# Altium footprint library 零散封装库.PcbLib: 11 footprints
Each footprint in its own frame and in the unit in brackets; x right, y up, seen from the top. Pads: shape width x height; smd on the part's side, far side on the other; paste and mask are expansions set on the pad; w line width, h text height; cw(c..) or ccw(c..) is an arc to the next point about the centre after c.
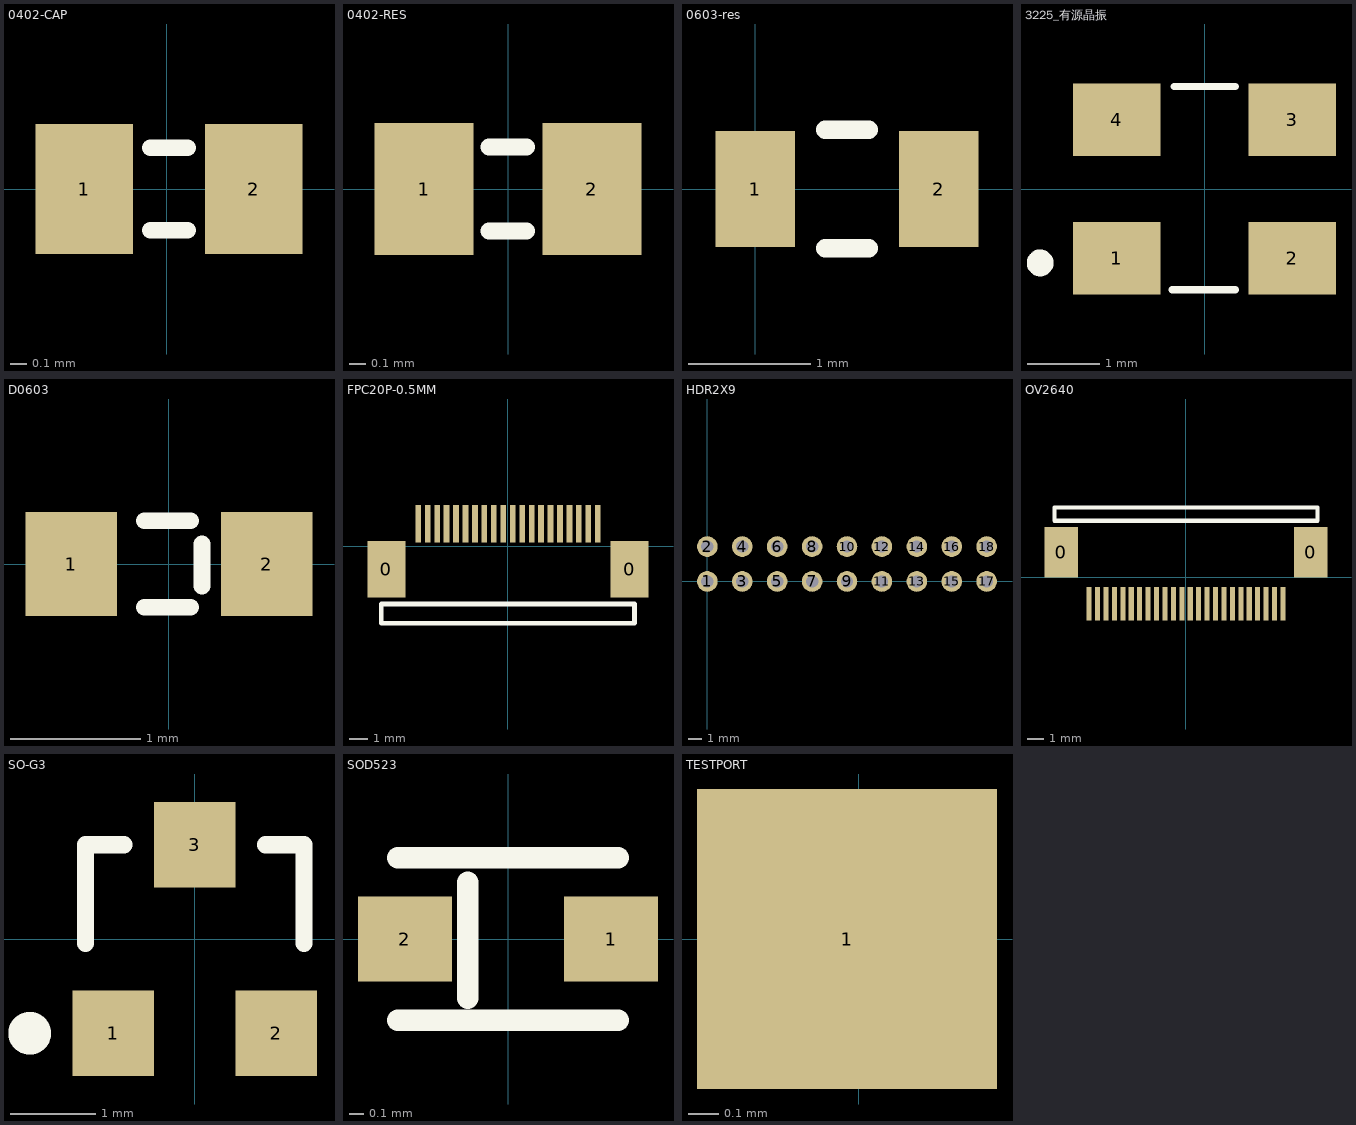
[diagram p0: the footprints below, top view; thin cyan lines are the x and y axes]

## 0402-CAP [mm] "Chip Capacitor, 2-Leads, Body 1.00x0.50mm, IPC Medium Density"
height 0.5
pads (2):
  rect 0.6x0.8 smd: 1(-0.508,0) 2(0.533,0)
Top Overlay:
  lines w0.102: -0.102,-0.254 0.127,-0.254 ; -0.102,0.254 0.127,0.254
3D body "CAPCP1005X05N.step": height 0.5, standoff 0, extent -0.525,-0.275 0.525,0.275

## 0402-RES [mm] "Chip Resistor, 2-Leads, Body 1.00x0.50mm, IPC Medium Density"
height 0.5
pads (2):
  rect 0.6x0.8 smd: 1(-0.508,0) 2(0.508,0)
Top Overlay:
  lines w0.102: -0.117,-0.254 0.112,-0.254 ; -0.117,0.254 0.112,0.254
3D body "RESC1005X05N.step": height 0.5, standoff 0, extent -0.527,-0.275 0.523,0.275

## 0603-res [mm]
height 0.35
pads (2):
  rect 0.65x0.95 smd: 1(0,0) 2(1.5,0)
Top Overlay:
  lines w0.152: 0.572,-0.483 0.928,-0.483 ; 0.572,0.483 0.928,0.483
3D body "0603-res.step": height 0.35, standoff 0, extent -0.125,-0.475 1.625,0.475

## 3225_有源晶振 [mm]
height 0.7
pads (4):
  rect 1.2x1 smd: 1(-1.206,-0.953) 2(1.206,-0.953) 3(1.206,0.953) 4(-1.206,0.953)
Top Overlay:
  circle w0.254: c-2.261,-1.016 r0.057
  lines w0.102: -0.445,-1.384 0.419,-1.384 ; -0.415,1.41 0.419,1.41
3D body "CRYTAL-SMD-SX3225.STEP": height 0.81, standoff 0, extent -1.613,-1.232 1.587,1.268

## D0603 [mm]
pads (2):
  rect 0.7x0.8 smd: 1(-0.75,0) 2(0.75,0)
Top Overlay:
  lines w0.127: -0.19,-0.333 0.165,-0.333 ; -0.19,0.333 0.165,0.333 ; 0.253,-0.17 0.253,0.154
3D body "LED-0603.STEP": height 0.52, standoff -0.03, extent -0.851,-0.387 0.8,0.413

## FPC20P-0.5MM [mm]
height 0.7
pads (22):
  rect 2x3 smd: 0(-6.436,-1.202) 0(6.436,-1.202)
  rect 0.3x2 smd: 1(4.75,1.202) 2(4.25,1.202) 3(3.75,1.202) 4(3.25,1.202) 5(2.75,1.202) 6(2.25,1.202) 7(1.75,1.202) 8(1.25,1.202) 9(0.75,1.202) 10(0.25,1.202) 11(-0.25,1.202) 12(-0.75,1.202) 13(-1.25,1.202) 14(-1.75,1.202) 15(-2.25,1.202) 16(-2.75,1.202) 17(-3.25,1.202) 18(-3.75,1.202) 19(-4.25,1.202) 20(-4.75,1.202)
Top Overlay:
  lines w0.254: -6.701,-4.065 -6.701,-3.049 6.699,-3.049 6.699,-4.065 -6.701,-4.065

## HDR2X9 [mm] "Connector; Header; 9x2 Position"
height 0.7
pads (18):
  round 1.5 hole 0.9: 1(0,0) 2(0,2.54) 3(2.54,0) 4(2.54,2.54) 5(5.08,0) 6(5.08,2.54) 7(7.62,0) 8(7.62,2.54) 9(10.16,0) 10(10.16,2.54) 11(12.7,0) 12(12.7,2.54) 13(15.24,0) 14(15.24,2.54) 15(17.78,0) 16(17.78,2.54) 17(20.32,0) 18(20.32,2.54)

## OV2640 [mm]
pads (26):
  rect 2x3 smd: 0(-7.4,1.476) 0(7.4,1.476)
  rect 0.3x2 smd: 1(-5.746,-1.574) 2(-5.248,-1.576) 3(-4.748,-1.576) 4(-4.248,-1.576) 5(-3.748,-1.576) 6(-3.248,-1.576) 7(-2.748,-1.576) 8(-2.248,-1.576) 9(-1.748,-1.576) 10(-1.248,-1.576) 11(-0.748,-1.576) 12(-0.248,-1.576) 13(0.252,-1.576) 14(0.752,-1.576) 15(1.252,-1.576) 16(1.752,-1.576) 17(2.252,-1.576) 18(2.752,-1.576) 19(3.252,-1.576) 20(3.752,-1.576) 21(4.252,-1.576) 22(4.752,-1.576) 23(5.252,-1.576) 24(5.752,-1.576)
Top Overlay:
  lines w0.254: -7.8,3.342 -7.8,4.135 7.8,4.135 7.8,3.342 -7.8,3.342

## SO-G3 [mm] "SOT-23; 3 Leads; Body 3.0 x 2.6 mm, inc. leads (LxW max)"
height 1.1
pads (3):
  rect 0.95x1 smd: 1(-0.95,-1.1) 2(0.95,-1.1) 3(0,1.1)
Top Overlay:
  circle w0.25: c-1.925,-1.1 r0.125
  lines w0.2: -1.275,-0.05 -1.275,1.1 -0.825,1.1 ; 0.825,1.1 1.275,1.1 1.275,-0.05
3D body "SOT-23.STEP": height 1.15, standoff 0.05, extent -1.5,-1.25 1.5,1.25

## SOD523 [mil]
height 27.56
pads (2):
  rect 26x23.62 smd paste+0 mask+0: 1(28.5,0) 2(-28.5,0)
Top Overlay:
  lines w6: -30.5,-22.5 30.5,-22.5 ; -30.5,22.5 30.5,22.5 ; -11.11,-16.31 -11.11,15.69
3D body "ZDO_SOD-523_STM.step": height 28.27, standoff 0, extent -33.51,-17.46 33.5,17.5

## TESTPORT [mm]
pads (1):
  rect 1x1 smd: 1(-0.04,0)